# Altium footprint library switch-coto.PCBLIB: 3 footprints
Each footprint in its own frame and in the unit in brackets; x right, y up, seen from the top. Pads: shape width x height; smd on the part's side, far side on the other; paste and mask are expansions set on the pad; w line width, h text height; cw(c..) or ccw(c..) is an arc to the next point about the centre after c.
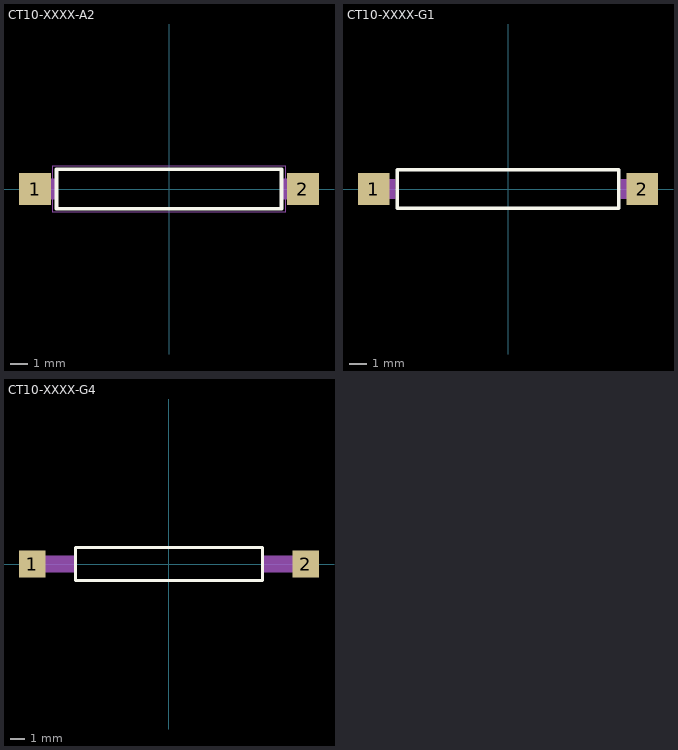
[diagram p0: the footprints below, top view; thin cyan lines are the x and y axes]

## CT10-XXXX-A2 [mm]
pads (2):
  rect 1.8x1.8 smd: 1(-7.5,0) 2(7.5,0)
Top Overlay:
  lines w0.203: -6.3,1.1 -6.3,-1.1 6.3,-1.1 6.3,1.1 -6.275,1.1
Mechanical 1:
  lines w0: -6.5,-1.3 -6.5,1.3 6.5,1.3 6.5,-1.3 -6.5,-1.3
Mechanical 16:
  rectangle: -7.85,-0.575 -6.25,0.575
  rectangle: 6.3,-0.575 7.85,0.575

## CT10-XXXX-G1 [mm]
pads (2):
  rect 1.8x1.8 smd: 1(-7.625,0) 2(7.625,0)
Top Overlay:
  lines w0.203: -6.3,1.1 -6.3,-1.1 6.3,-1.1 6.3,1.1 -6.275,1.1
Mechanical 16:
  rectangle: -8.2,-0.575 -6.4,0.575
  rectangle: 6.4,-0.575 8.2,0.575

## CT10-XXXX-G4 [mm]
pads (2):
  rect 1.8x1.8 smd: 1(-9.2,0) 2(9.225,0)
Top Overlay:
  lines w0.203: -6.3,1.1 -6.3,-1.1 6.3,-1.1 6.3,1.1 -6.275,1.1
Mechanical 16:
  rectangle: -9.8,-0.575 -6.4,0.575
  rectangle: 6.4,-0.575 9.8,0.575